# EAGLE library part PWR_REG_BUCK_SY8113BADC (library !GPLIB_ACTIVE)
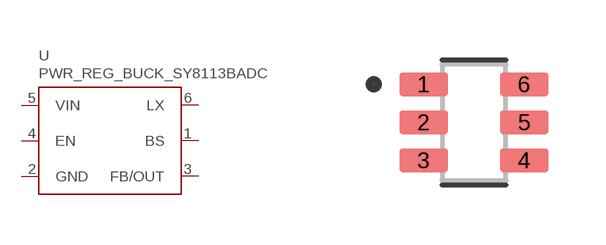
[diagram p92: symbol with the pads of SOT95P280X145-6N; footprint SOT95P280X145-6N]

Designator prefix U

## PWR_REG_BUCK_SY8113BADC  [SOT95P280X145-6N]
1  BS  pwr
2  GND  pwr
3  FB/OUT  in
4  EN  in
5  VIN  pwr
6  LX  pwr

## Footprint SOT95P280X145-6N (pad centres in mm)
smd 1.21 x 0.58: 1 -1.255,0.95; 2 -1.255,0; 3 -1.255,-0.95; 4 1.255,-0.95; 5 1.255,0; 6 1.255,0.95